# Altium footprint library TE_CONN_6ESRM-P.PcbLib: 1 footprints
Each footprint in its own frame and in the unit in brackets; x right, y up, seen from the top. Pads: shape width x height; smd on the part's side, far side on the other; paste and mask are expansions set on the pad; w line width, h text height; cw(c..) or ccw(c..) is an arc to the next point about the centre after c.
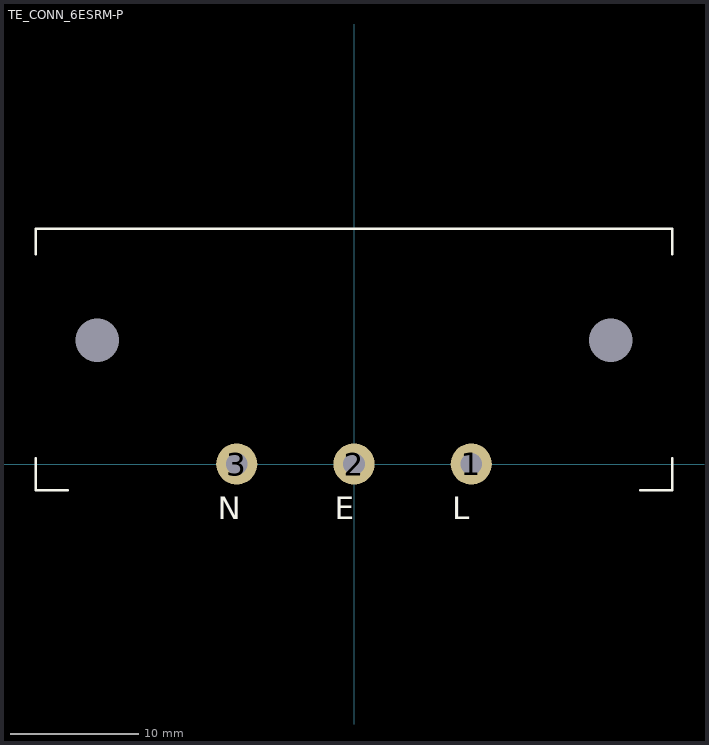
[diagram p0: the footprint, top view; thin cyan lines are the x and y axes]

## TE_CONN_6ESRM-P [mm] "TE Connectivity IEC Male Receptacle"
pads (5):
  round 0 hole 3.4 unplated: 0(-20,9.65) 0(20,9.65)
  round 3.2 hole 1.7: 1(9.14,0) 2(0,0) 3(-9.14,0)
Top Overlay:
  lines w0.2: -24.8,0.45 -24.8,-2.05 -22.3,-2.05 ; -24.8,16.35 -24.8,18.35 24.8,18.35 24.8,16.35 ; 22.3,-2.05 24.8,-2.05 24.8,0.45
  text "L" at 7.65,-4.316 h1.75
  text "E" at -1.49,-4.316 h1.75
  text "N" at -10.63,-4.316 h1.75
3D body "TE_CONN_1609078-1.stp": height 27.81, standoff -3.55, extent -24.805,-2.05 24.805,21.547